# Altium schematic symbol library Coax_1Female_1Shield.Schlib: 1 symbol
Pins are listed as number, name and electrical type; pins without a type are passive.

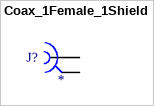
[diagram p0: symbol Coax_1Female_1Shield]

## Coax_1Female_1Shield
designator J?
ComponentLink1Description: LCSC - Shenzhen Kinghelm Elec KH-SMA-K513-G; ComponentLink1URL: https://lcsc.com/product-detail/RF-Connectors-Coaxial-Connectors_Shenzhen-Kinghelm-Elec-KH-SMA-K513-G_C411575.html
footprint TYCO_5-1814832-1 (50 Ohm SMA Straight PCB Die Socket)
pins: 1, 2